# Altium schematic symbol library J5MM.Schlib: 1 symbol
Pins are listed as number, name and electrical type; pins without a type are passive.

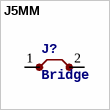
[diagram p0: symbol J5MM]

## J5MM
designator J?, comment Bridge
footprint 05
pins: 1, 2